# Altium footprint library IntegratedCircuitsFootprints.PcbLib: 18 footprints (part 2 of 2)
Each footprint in its own frame and in the unit in brackets; x right, y up, seen from the top. Pads: shape width x height; smd on the part's side, far side on the other; paste and mask are expansions set on the pad; w line width, h text height; cw(c..) or ccw(c..) is an arc to the next point about the centre after c.
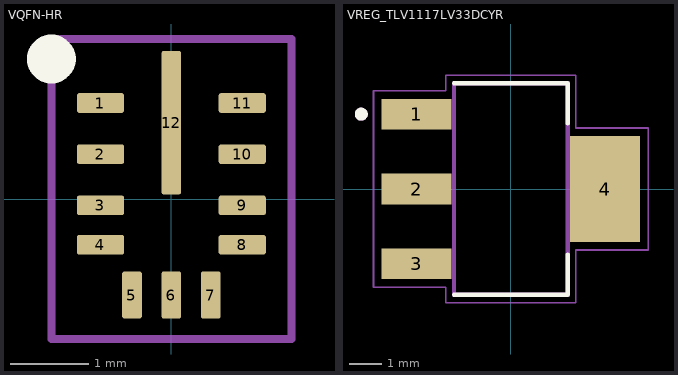
[diagram p1: the footprints below, top view; thin cyan lines are the x and y axes]

## VQFN-HR [mm]
pads (12):
  rrect25% 0.6x0.25 smd mask+0.07: 1(-0.9,1.219) 2(-0.9,0.569) 3(-0.9,-0.081) 4(-0.9,-0.581) 8(0.9,-0.581) 9(0.9,-0.081) 10(0.9,0.569) 11(0.9,1.219)
  rrect25% 0.25x0.6 smd mask+0.07: 5(-0.5,-1.219) 6(0,-1.219) 7(0.5,-1.219)
  rrect25% 0.25x1.825 smd mask+0.07: 12(0,0.969)
Top Overlay:
  circle w0.5: c-1.524,1.778 r0.06
Mechanical 15:
  lines w0.1: -1.524,-1.778 1.524,-1.778 1.524,2.032 1.333,2.032 0.953,2.032 0.762,2.032 -0.762,2.032 -1.524,2.032 -1.524,-1.778
3D body "RNX0012A.stp": height 1, standoff 0, extent -1,-1.398 1,1.602

## VREG_TLV1117LV33DCYR [mm]
pads (4):
  rect 2.15x0.95 smd: 1(-2.9,2.3) 2(-2.9,0) 3(-2.9,-2.3)
  rect 2.15x3.25 smd: 4(2.9,0)
Top Overlay:
  circle w0.2: c-4.6,2.3 r0.1
  lines w0.127: -1.75,-3.25 1.75,-3.25 1.75,-2.01 ; -1.75,3.25 1.75,3.25 1.75,2.01
Mechanical 13:
  circle w0.2: c-4.6,2.3 r0.1
  lines w0.127: -1.75,-3.25 -1.75,3.25 1.75,3.25 1.75,-3.25 -1.75,-3.25
Mechanical 15:
  lines w0.05: -4.225,-3.025 -4.225,3.025 -2,3.025 -2,3.5 2,3.5 2,1.875 4.225,1.875 4.225,-1.875 2,-1.875 2,-3.5 -2,-3.5 -2,-3.025 -4.225,-3.025
3D body "step_temp.STEP": height 1.8, standoff 0, extent -3.499,-3.25 3.499,3.25